# Altium schematic symbol library 169.SchLib: 1 symbol
Pins are listed as number, name and electrical type; pins without a type are passive.

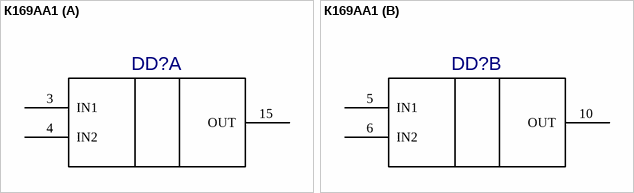
[diagram p0: symbol К169АА1]

## К169АА1
designator DD?  (value not drawn)
Author: pcbdesigner.ru; Value: *
footprint 402.16-3
pins on every part: 1 hidden, 2 hidden, 7 hidden, 8 GND (power) hidden, 9 hidden, 11 hidden, 12 hidden, 13 hidden, 14 hidden, 16 VCC (power) hidden
part A pins: 3 IN1, 4 IN2, 15 OUT
part B pins: 5 IN1, 6 IN2, 10 OUT